# EAGLE library part DIN-BOAD (library BaseApp)
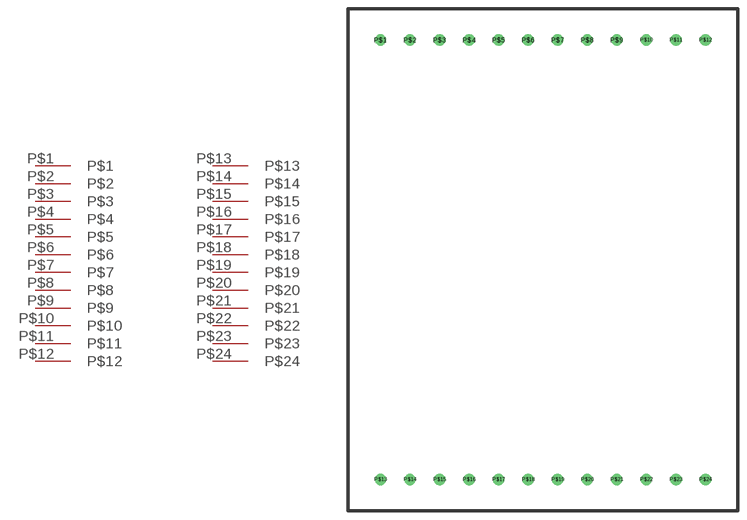
[diagram p100: symbol with the pads of DIN-BOARD; footprint DIN-BOARD]

Designator prefix -

## DIN-BOAD  [DIN-BOARD]
P$1  P$1
P$2  P$2
P$3  P$3
P$4  P$4
P$5  P$5
P$6  P$6
P$7  P$7
P$8  P$8
P$9  P$9
P$10  P$10
P$11  P$11
P$12  P$12
P$13  P$13
P$14  P$14
P$15  P$15
P$16  P$16
P$17  P$17
P$18  P$18
P$19  P$19
P$20  P$20
P$21  P$21
P$22  P$22
P$23  P$23
P$24  P$24

## Footprint DIN-BOARD (pad centres in mm)
drill 1.3: P$1 -27.94,37.8; P$2 -22.86,37.8; P$3 -17.78,37.8; P$4 -12.7,37.8; P$5 -7.62,37.8; P$6 -2.54,37.8; P$7 2.54,37.8; P$8 7.62,37.8; P$9 12.7,37.8; P$10 17.78,37.8; P$11 22.86,37.8; P$12 27.94,37.8; P$13 -27.94,-37.8; P$14 -22.86,-37.8; P$15 -17.78,-37.8; P$16 -12.7,-37.8; P$17 -7.62,-37.8; P$18 -2.54,-37.8; P$19 2.54,-37.8; P$20 7.62,-37.8; P$21 12.7,-37.8; P$22 17.78,-37.8; P$23 22.86,-37.8; P$24 27.94,-37.8